# Altium footprint library RGB043M2屏幕模块-封装库.PcbLib: 2 footprints
Each footprint in its own frame and in the unit in brackets; x right, y up, seen from the top. Pads: shape width x height; smd on the part's side, far side on the other; paste and mask are expansions set on the pad; w line width, h text height; cw(c..) or ccw(c..) is an arc to the next point about the centre after c.
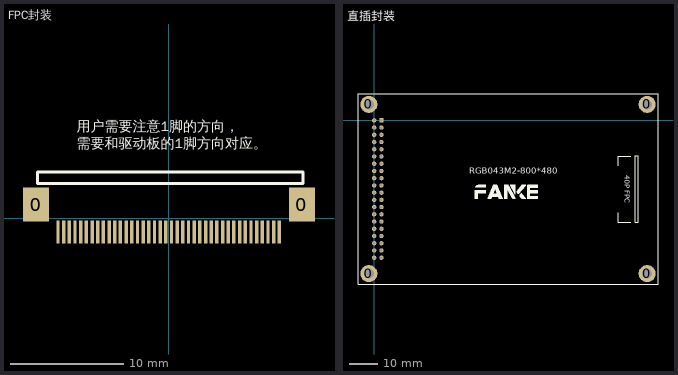
[diagram p0: the footprints below, top view; thin cyan lines are the x and y axes]

## FPC封装 [mm]
pads (42):
  rect 2.3x3 smd: 0(-11.715,1.203) 0(11.715,1.203)
  rect 0.3x2 smd: 1(9.721,-1.202) 2(9.221,-1.202) 3(8.721,-1.202) 4(8.221,-1.202) 5(7.721,-1.202) 6(7.221,-1.202) 7(6.721,-1.202) 8(6.221,-1.202) 9(5.721,-1.202) 10(5.221,-1.202) 11(4.721,-1.202) 12(4.221,-1.202) 13(3.721,-1.202) 14(3.221,-1.202) 15(2.721,-1.202) 16(2.221,-1.202) 17(1.721,-1.202) 18(1.221,-1.202) 19(0.721,-1.202) 20(0.221,-1.202) 21(-0.279,-1.202) 22(-0.779,-1.202) 23(-1.279,-1.202) 24(-1.779,-1.202) 25(-2.279,-1.202) 26(-2.779,-1.202) 27(-3.279,-1.202) 28(-3.779,-1.202) 29(-4.279,-1.202) 30(-4.779,-1.202) 31(-5.279,-1.202) 32(-5.779,-1.202) 33(-6.279,-1.202) 34(-6.779,-1.202) 35(-7.279,-1.202) 36(-7.779,-1.202) 37(-8.279,-1.202) 38(-8.779,-1.202) 39(-9.279,-1.202) 40(-9.779,-1.202)
Top Overlay:
  lines w0.254: -11.585,3.049 -11.585,4.065 11.815,4.065 11.815,3.049 -11.585,3.049
  text "用户需要注意1脚的方向， / 需要和驱动板的1脚方向对应。" at -8.128,5.842 h1.52

## 直插封装 [mm]
pads (44):
  round 6 hole 3.5: 0(-1.88,-53.861) 0(-1.88,5.613) 0(95.898,-53.861) 0(95.898,5.613)
  rect 1.5x1.5 hole 0.9: 1(2.54,0)
  round 1.5 hole 0.9: 2(0,0) 3(2.54,-2.54) 4(0,-2.54) 5(2.54,-5.08) 6(0,-5.08) 7(2.54,-7.62) 8(0,-7.62) 9(2.54,-10.16) 10(0,-10.16) 11(2.54,-12.7) 12(0,-12.7) 13(2.54,-15.24) 14(0,-15.24) 15(2.54,-17.78) 16(0,-17.78) 17(2.54,-20.32) 18(0,-20.32) 19(2.54,-22.86) 20(0,-22.86) 21(2.54,-25.4) 22(0,-25.4) 23(2.54,-27.94) 24(0,-27.94) 25(2.54,-30.48) 26(0,-30.48) 27(2.54,-33.02) 28(0,-33.02) 29(2.54,-35.56) 30(0,-35.56) 31(2.54,-38.1) 32(0,-38.1) 33(2.54,-40.64) 34(0,-40.64) 35(2.54,-43.18) 36(0,-43.18) 37(2.54,-45.72) 38(0,-45.72) 39(2.54,-48.26) 40(0,-48.26)
Top Overlay:
  drawing of 799 lines, arcs and shapes, not listed
  text "40P FPC" at 87.395,-19.298 h3.05
  text "RGB043M2-800*480" at 33.401,-19.685 h3.81